# Altium footprint library AltiumLibraries.PcbLib: 91 footprints (part 5 of 6)
Each footprint in its own frame and in the unit in brackets; x right, y up, seen from the top. Pads: shape width x height; smd on the part's side, far side on the other; paste and mask are expansions set on the pad; w line width, h text height; cw(c..) or ccw(c..) is an arc to the next point about the centre after c.
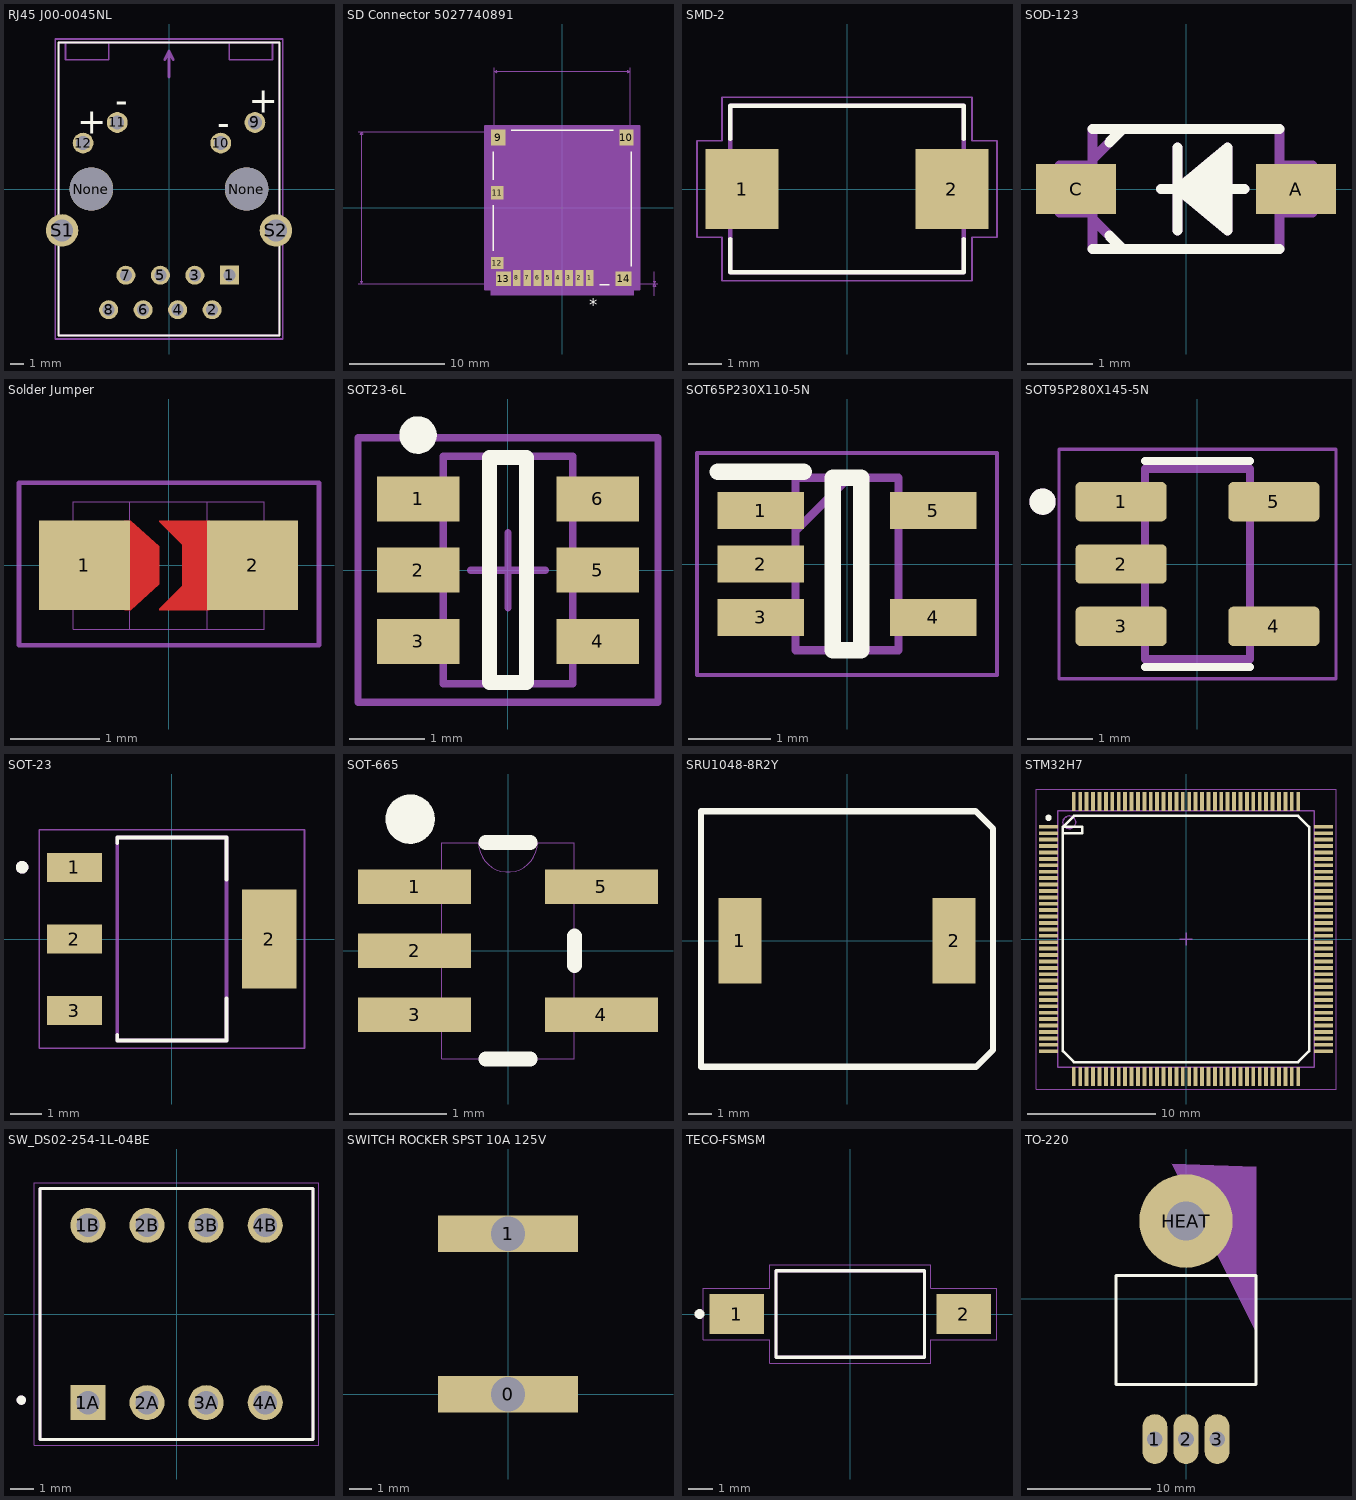
[diagram p4: the footprints below, top view; thin cyan lines are the x and y axes]

## RJ45 J00-0045NL [mm]
pads (16):
  rect 1.398x1.398 hole 0.89: 1(4.445,-6.35)
  round 1.398 hole 0.89: 2(3.175,-8.89) 3(1.905,-6.35) 4(0.635,-8.89) 5(-0.635,-6.35) 6(-1.905,-8.89) 7(-3.175,-6.35) 8(-4.445,-8.89)
  round 1.53 hole 1.02: 9(6.325,4.9) 10(3.81,3.38) 11(-3.81,4.9) 12(-6.325,3.38)
  round 3.2 hole 3.2 unplated: None(-5.715,0) None(5.715,0)
  round 2.4 hole 1.6: S1(-7.875,-3.05) S2(7.875,-3.05)
Top Overlay:
  lines w0.127: -8.13,-10.795 -8.13,10.795 8.13,10.795 8.13,-10.795 -8.13,-10.795
  text "+" at -6.749,4.077 h1.88
  text "-" at -3.947,5.606 h1.88
  text "-" at 3.569,3.949 h1.88
  text "+" at 5.865,5.604 h1.88
Mechanical 4:
  lines w0.127: -8.128,-10.795 8.128,-10.795 ; -8.128,-10.795 -8.128,10.795 ; -8.128,-10.795 8.128,-10.795 ; -8.128,-10.795 -8.128,10.795 ; -8.128,10.795 8.128,10.795 ; -8.128,10.795 8.128,10.795 ; -7.62,9.525 -4.445,9.525 ; -7.62,9.525 -7.62,10.795 -7.62,9.525 ; -7.62,9.525 -4.445,9.525 ; -4.445,9.525 -4.445,10.795 -4.445,9.525 ; 4.445,9.525 7.62,9.525 ; 4.445,9.525 4.445,10.795 4.445,9.525 ; 4.445,9.525 7.62,9.525 ; 7.62,9.525 7.62,10.795 7.62,9.525 ; 8.128,-10.795 8.128,10.795 ; 8.128,-10.795 8.128,10.795
  lines w0.203: 0,10.16 0.318,9.525 0,10.16 ; 0,10.16 -0.318,9.525 0,10.16 ; 0,10.16 0,8.255 0,10.16
  text "12" at -7.753,1.402 h1.88
  text "11" at -4.327,2.805 h1.88
  text "10" at 2.804,1.152 h1.88
  text "9" at 6.235,2.804 h1.88
  text "FRONT" at -1.592,6.436 h1.88
  text "RIGHT" at -7.327,9.625 h1.88
  text "LEFT" at 5.102,9.636 h1.88
  text "2" at 3.823,-8.534 h1.88
  text "4" at 1.273,-8.524 h1.88
  text "6" at -1.277,-8.553 h1.88
  text "8" at -3.827,-8.542 h1.88
  text "7" at -2.549,-5.984 h1.88
  text "5" at 0,-5.995 h1.88
  text "3" at 2.547,-5.981 h1.88
  text "1" at 5.105,-5.993 h1.88
  text "12" at -7.753,1.402 h1.88
  text "11" at -4.327,2.805 h1.88
  text "10" at 2.804,1.152 h1.88
  text "9" at 6.235,2.804 h1.88
  text "FRONT" at -1.592,6.436 h1.88
  text "RIGHT" at -7.327,9.625 h1.88
  text "LEFT" at 5.102,9.636 h1.88
  text "2" at 3.823,-8.534 h1.88
  text "4" at 1.273,-8.524 h1.88
  text "6" at -1.277,-8.553 h1.88
  text "8" at -3.827,-8.542 h1.88
  text "7" at -2.549,-5.984 h1.88
  text "5" at 0,-5.995 h1.88
  text "3" at 2.547,-5.981 h1.88
  text "1" at 5.105,-5.993 h1.88
Mechanical 15:
  lines w0.127: -8.378,-11.045 -8.378,11.045 8.378,11.045 8.378,-11.045 -8.378,-11.045
3D body "J00-0045NL--3DModel-STEP-56544.STEP": height 13.68, standoff -3.67, extent -8.201,-10.82 8.255,10.77

## SD Connector 5027740891 [mil]
height 70.87
pads (14):
  rect 32x66 smd paste+0 mask+0: 1(114.13,-290.83) 2(70.83,-290.83) 3(27.52,-290.83) 4(-15.79,-290.83) 5(-59.09,-290.83) 6(-102.4,-290.83) 7(-145.71,-290.83) 8(-189.02,-290.83)
  rect 59x67 smd: 9(-265.77,290.33) 10(265.77,290.33)
  rect 51x55 smd paste+0 mask+0: 11(-270.04,62.09)
  rect 51x51 smd: 12(-270.04,-229.25)
  rect 63x59 smd: 13(-244.14,-294.33)
  rect 67x59 smd: 14(253.92,-294.33)
Top Overlay:
  lines w6: -286.5,-178 -286.5,10 ; -286.5,114.83 -286.5,231.83 ; -211.27,320 211.27,320 ; 155.13,-320 195.53,-320 ; 286.5,-243.07 286.5,231.83
  text "*" at 112.5,-425 h50
Mechanical 5:
  region: -296.5,330 296.5,330 296.5,-363 -296.5,-363
Mechanical 7:
  lines w1: -846.5,-315 -281.5,-315 ; -846.5,315 -281.5,315 -281.5,580 ; 0,-315 396.5,-315 281.5,-315 ; 281.5,315 281.5,580 ; 381.5,-365 381.5,-315 ; 381.5,-265 381.5,-315 ; -831.5,-315 -831.5,315 ; -831.5,-315 -836.5,-305 -826.5,-305 -831.5,-315 ; -831.5,315 -836.5,305 -826.5,305 -831.5,315 ; -281.5,565 281.5,565 ; -281.5,565 -271.5,570 -271.5,560 -281.5,565 ; 281.5,565 271.5,570 271.5,560 281.5,565 ; 381.5,-315 376.5,-305 386.5,-305 381.5,-315 ; 381.5,-315 376.5,-325 386.5,-325 381.5,-315
  text "Default Padstyle: RX32Y66D0T" at -350,-690 h50
  text "Mounting Pad 1 Padstyle: RX67Y59D0T" at -437.5,-740 h50
  text "Mounting Pad 2 Padstyle: RX63Y59D0T" at -437.5,-790 h50
  text "Mounting Pad 3 Padstyle: RX59Y67D0T" at -437.5,-840 h50
  text "Top Pad Padstyle: RX51Y55D0T" at -350,-890 h50
  text "Alt 1 Padstyle: OX60Y90D30P" at -337.5,-940 h50
  text "Alt 2 Padstyle: OX90Y60D30P" at -337.5,-990 h50
  text "0in/0mm" at 401.5,-327.5 h25
  text "0.63in/16.002mm" at -1039,-12.5 h25
  text "0.563in/14.3mm" at -87.5,585 h25
Mechanical 13:
  lines w1: -281.5,-315 281.5,-315 281.5,315 -281.5,315 -281.5,-315
  text "*" at 112.5,-250 h50
Mechanical 15:
  region: -321.5,340 -321.5,-340 321.5,-340 321.5,340
  lines w6: -321.5,-340 321.5,-340 321.5,340 -321.5,340 -321.5,-340
3D body: height 10, standoff 0, extent 0,0 10,10

## SMD-2 [mm]
pads (2):
  rect 2.2x2.4 smd: 1(-3.15,0) 2(3.15,0)
Top Overlay:
  lines w0.127: -3.5,-1.5 -3.5,-2.5 3.5,-2.5 3.5,-1.5 ; -3.5,1.5 -3.5,2.5 3.5,2.5 3.5,1.5
Mechanical 4:
  lines w0.127: -3.5,-2.5 3.5,-2.5 ; -3.5,-2.5 -3.5,2.5 ; -3.5,-2.5 3.5,-2.5 ; -3.5,-2.5 -3.5,2.5 ; -3.5,2.5 3.5,2.5 ; -3.5,2.5 3.5,2.5 ; 3.5,-2.5 3.5,2.5 ; 3.5,-2.5 3.5,2.5
Mechanical 15:
  lines w0.05: -4.5,-1.45 -3.75,-1.45 -3.75,-2.75 3.75,-2.75 3.75,-1.45 4.5,-1.45 4.5,1.45 3.75,1.45 3.75,2.75 -3.75,2.75 -3.75,1.45 -4.5,1.45 -4.5,-1.45

## SOD-123 [mil]
pads (2):
  rect 48x30 smd: A(66,0) C(-66,0)
Top Overlay:
  lines w6: -56,-36 -38,-36 ; -56,36 -38,36 ; -46,-28 -38,-36 ; -46,28 -38,36 ; -15,0 -5,0 ; -5,-25 -5,0 ; -5,25 -5,0 ; 35,0 -5,0 ; 56,-36 -38,-36 ; 56,36 -38,36 ; -5,0 25,-5 ; -5,0 25,-10 ; -5,0 25,-15 ; -5,0 25,-20 ; -5,0 25,-25 25,-20 ; -5,0 25,5 ; -5,0 25,10 ; -5,0 25,15 ; -5,0 25,20 ; -5,0 25,25 25,20 ; 25,-20 25,-15 ; 25,-15 25,-10 ; 25,-10 25,-5 ; 25,-5 25,5 ; 25,5 25,10 ; 25,10 25,15 ; 25,15 25,20
Mechanical 4:
  lines w6: -76,-14 -56,-14 ; -76,-14 -76,14 ; -76,-14 -56,-14 ; -76,-14 -76,14 ; -76,14 -56,14 ; -76,14 -56,14 ; -56,-36 -38,-36 ; -56,-36 -56,-18 ; -56,-36 -38,-36 ; -56,-36 -56,-18 ; -56,-18 -38,-36 ; -56,-18 -56,-14 ; -56,-18 -38,-36 ; -56,-18 -56,-14 ; -56,-14 -56,14 ; -56,-14 -56,14 ; -56,14 -56,18 ; -56,14 -56,18 ; -56,18 -38,36 ; -56,18 -56,36 ; -56,18 -38,36 ; -56,18 -56,36 ; -56,36 -38,36 ; -56,36 -38,36 ; -38,-36 56,-36 ; -38,-36 56,-36 ; -38,36 56,36 ; -38,36 56,36 ; -5,0 25,-5 ; -5,0 25,-10 ; -5,0 25,-15 ; -5,0 25,-20 ; -5,0 25,-25 ; -5,0 25,5 ; -5,0 25,10 ; -5,0 25,15 ; -5,0 25,20 ; -5,0 25,25 ; -5,0 -5,25 -5,0 ; -5,0 35,0 -5,0 ; -5,0 -5,-25 -5,0 ; -5,0 -15,0 -5,0 ; -5,0 25,-5 ; -5,0 25,-10 ; -5,0 25,-15 ; -5,0 25,-20 ; -5,0 25,-25 ; -5,0 25,5 ; -5,0 25,10 ; -5,0 25,15 ; -5,0 25,20 ; -5,0 25,25 ; 25,-25 25,-20 ; 25,-25 25,-20 ; 25,-20 25,-15 ; 25,-20 25,-15 ; 25,-15 25,-10 ; 25,-15 25,-10 ; 25,-10 25,-5 ; 25,-10 25,-5 ; 25,-5 25,5 ; 25,-5 25,5 ; 25,5 25,10 ; 25,5 25,10 ; 25,10 25,15 ; 25,10 25,15 ; 25,15 25,20 ; 25,15 25,20 ; 25,20 25,25 ; 25,20 25,25 ; 56,-36 56,-14 ; 56,-36 56,-14 ; 56,-14 56,14 ; 56,-14 76,-14 ; 56,-14 56,14 ; 56,-14 76,-14 ; 56,14 76,14 ; 56,14 56,36 ; 56,14 76,14 ; 56,14 56,36 ; 76,-14 76,14 ; 76,-14 76,14

## Solder Jumper [mil] "Solder jumper compatible with 0805 passives"
pads (2):
  rect 40x39.37 smd: 1(-37,0) 2(37,0)
Top Layer:
  region: -16.54,19.68 -4.01,8.37 -3.99,-8.37 -16.54,-19.68 -19.29,-19.68 -19.29,19.68
  region: 18,-19.68 -4.06,-19.68 -4.06,-19.06 6,-9 6,15.35 18,15.35
  region: 18,19.68 -4.06,19.68 -4.06,19.06 6,9 6,-15.35 18,-15.35
Mechanical 1:
  lines w0: -17,-28 17,-28 ; -17,-28 -42,-28 -42,28 -17,28 ; -17,-28 -17,28 ; -17,28 17,28 ; 17,-28 42,-28 42,28 17,28 ; 17,-28 17,28
Mechanical 15:
  lines w2.01: -65.75,-35.04 66.14,-35.04 66.14,36.22 -65.75,36.22 -65.75,-35.04

## SOT23-6L [mm]
height 1.25
pads (6):
  rect 1.1x0.6 smd: 1(-1.2,0.95) 2(-1.2,0) 3(-1.2,-0.95) 4(1.2,-0.95) 5(1.2,0) 6(1.2,0.95)
Top Overlay:
  circle w0.25: c-1.2,1.8 r0.125
  lines w0.2: -0.25,-1.5 0.25,-1.5 0.25,1.5 -0.25,1.5 -0.25,-1.5
Mechanical 13:
  lines w0.1: -0.865,-1.515 -0.865,1.515 0.865,1.515 0.865,-1.515 -0.865,-1.515
Mechanical 15:
  lines w0.1: -0.5,0 0.5,0 ; 0,-0.5 0,0.5 ; -2,-1.763 -2,1.763 2,1.763 2,-1.763 -2,-1.763
3D body: height 1.25, standoff 0.05, extent -0.865,-1.515 0.865,1.515

## SOT65P230X110-5N [mm]
pads (5):
  rect 1.05x0.45 smd: 1(-1.05,0.65) 2(-1.05,0) 3(-1.05,-0.65) 4(1.05,-0.65) 5(1.05,0.65)
Top Overlay:
  lines w0.2: -1.575,1.125 -0.525,1.125 ; -0.175,-1.05 -0.175,1.05 0.175,1.05 0.175,-1.05 -0.175,-1.05
Mechanical 13:
  lines w0.1: -0.625,0.4 0.025,1.05 ; -0.625,-1.05 -0.625,1.05 0.625,1.05 0.625,-1.05 -0.625,-1.05
Mechanical 15:
  lines w0.05: -1.825,-1.35 -1.825,1.35 1.825,1.35 1.825,-1.35 -1.825,-1.35
3D body "CPDV5-3V3UP.stp": height 1.1, standoff 0, extent -1.15,-1.05 1.15,1.05

## SOT95P280X145-5N [mm]
pads (5):
  rrect25% 1.39x0.6 smd: 1(-1.165,0.95) 2(-1.165,0) 3(-1.165,-0.95) 4(1.165,-0.95) 5(1.165,0.95)
Top Overlay:
  circle w0.2: c-2.36,0.95 r0.1
  lines w0.127: -0.8,-1.57 0.8,-1.57 ; -0.8,1.57 0.8,1.57
Mechanical 13:
  circle w0.2: c-2.36,0.95 r0.1
  lines w0.127: -0.8,-1.45 0.8,-1.45 0.8,1.45 -0.8,1.45 -0.8,-1.45
Mechanical 15:
  lines w0.05: -2.11,-1.75 2.11,-1.75 2.11,1.75 -2.11,1.75 -2.11,-1.75
3D body "RJ_5_ADI.step": height 1.45, standoff 0, extent -1.499,-1.499 1.499,1.499

## SOT-23 [mm]
pads (4):
  rect 1.76x0.93 smd: 1(-3.125,2.3) 2(-3.125,0) 3(-3.125,-2.3)
  rect 1.76x3.19 smd: 2(3.125,0)
Top Overlay:
  circle w0.2: c-4.8,2.3 r0.1
  lines w0.127: -1.75,-3.08 -1.75,-3.25 1.75,-3.25 1.75,-1.91 ; -1.75,3.08 -1.75,3.25 1.75,3.25 1.75,1.91
Mechanical 4:
  circle w0.2: c-4.8,2.3 r0.1
  circle w0.2: c-4.8,2.3 r0.1
  lines w0.127: -1.75,-3.25 1.75,-3.25 ; -1.75,-3.25 -1.75,3.25 ; -1.75,-3.25 1.75,-3.25 ; -1.75,-3.25 -1.75,3.25 ; -1.75,3.25 1.75,3.25 ; -1.75,3.25 1.75,3.25 ; 1.75,-3.25 1.75,3.25 ; 1.75,-3.25 1.75,3.25
Mechanical 16:
  lines w0.05: -4.255,-3.5 4.255,-3.5 4.255,3.5 -4.255,3.5 -4.255,-3.5

## SOT-665 [mil]
pads (5):
  rect 46x14 smd: 1(-38,26) 2(-38,0) 3(-38,-26) 4(38,-26) 5(38,26)
Top Overlay:
  circle w10: c-39.76,53.54 r5.04
  lines w6: -9,-44 9,-44 ; -9,44 9,44 ; 27,-6 27,6
Mechanical 4:
  lines w0: -44,-31 -27,-31 ; -44,-31 -44,-20 ; -44,-31 -27,-31 ; -44,-31 -44,-20 ; -44,-20 -27,-20 ; -44,-20 -27,-20 ; -44,-6 -27,-6 ; -44,-6 -44,6 ; -44,-6 -27,-6 ; -44,-6 -44,6 ; -44,6 -27,6 ; -44,6 -27,6 ; -44,20 -27,20 ; -44,20 -44,31 ; -44,20 -27,20 ; -44,20 -44,31 ; -44,31 -27,31 ; -44,31 -27,31 ; -27,-44 -27,-31 ; -27,-44 27,-44 ; -27,-44 -27,-31 ; -27,-44 27,-44 ; -27,-31 -27,-20 ; -27,-31 -27,-20 ; -27,-20 -27,-6 ; -27,-20 -27,-6 ; -27,-6 -27,6 ; -27,-6 -27,6 ; -27,6 -27,20 ; -27,6 -27,20 ; -27,20 -27,31 ; -27,20 -27,31 ; -27,31 -27,44 ; -27,31 -27,44 ; -27,44 -12,44 ; -27,44 -12,44 ; -12,44 ccw(c0,44) 12,44 ; -12,44 ccw(c0,44) 12,44 ; -12,44 12,44 ; -12,44 12,44 ; 12,44 27,44 ; 12,44 27,44 ; 27,-44 27,-31 ; 27,-44 27,-31 ; 27,-31 44,-31 ; 27,-31 27,-20 ; 27,-31 44,-31 ; 27,-31 27,-20 ; 27,-20 44,-20 ; 27,-20 27,20 ; 27,-20 44,-20 ; 27,-20 27,20 ; 27,20 44,20 ; 27,20 27,31 ; 27,20 44,20 ; 27,20 27,31 ; 27,31 44,31 ; 27,31 27,44 ; 27,31 44,31 ; 27,31 27,44 ; 44,-31 44,-20 ; 44,-31 44,-20 ; 44,20 44,31 ; 44,20 44,31

## SRU1048-8R2Y [mil]
pads (2):
  rect 71x142 smd: 1(-177,0) 2(177,0)
Top Overlay:
  lines w10: -241.5,-208.27 -241.5,0 -241.5,214.17 212.6,214.17 241.5,185.27 241.5,-180.15 213.39,-208.27 -241.5,-208.27

## STM32H7 [mm] "STM32H743ZI 144 pin"
height 1.6
pads (144):
  rect 0.3x1.45 smd: BOOT0(-5.75,10.725) PA3(-8.75,-10.725) PA4(-7.25,-10.725) PA5(-6.75,-10.725) PA6(-6.25,-10.725) PA7(-5.75,-10.725) PA14(8.75,10.725) PA15(8.25,10.725) PB0(-4.25,-10.725) PB1(-3.75,-10.725) PB2(-3.25,-10.725) PB3(-3.25,10.725) PB4(-3.75,10.725) PB5(-4.25,10.725) PB6(-4.75,10.725) PB7(-5.25,10.725) PB8(-6.25,10.725) PB9(-6.75,10.725) PB10(7.25,-10.725) PB11(7.75,-10.725) PC4(-5.25,-10.725) PC5(-4.75,-10.725) PC10(7.75,10.725) PC11(7.25,10.725) PC12(6.75,10.725) PD0(6.25,10.725) PD1(5.75,10.725) PD2(5.25,10.725) PD3(4.75,10.725) PD4(4.25,10.725) PD5(3.75,10.725) PD6(2.25,10.725) PD7(1.75,10.725) PDR_ON(-8.25,10.725) PE0(-7.25,10.725) PE1(-7.75,10.725) PE7(1.75,-10.725) PE8(2.25,-10.725) PE9(2.75,-10.725) PE10(4.25,-10.725) PE11(4.75,-10.725) PE12(5.25,-10.725) PE13(5.75,-10.725) PE14(6.25,-10.725) PE15(6.75,-10.725) PF11(-2.75,-10.725) PF12(-2.25,-10.725) PF13(-0.75,-10.725) PF14(-0.25,-10.725) PF15(0.25,-10.725) PG0(0.75,-10.725) PG1(1.25,-10.725) PG9(1.25,10.725) PG10(0.75,10.725) PG11(0.25,10.725) PG12(-0.25,10.725) PG13(-0.75,10.725) PG14(-1.25,10.725) PG15(-2.75,10.725) VCAP(8.25,-10.725) VDD(-8.75,10.725) VDD(-7.75,-10.725) VDD(-2.25,10.725) VDD(-1.25,-10.725) VDD(2.75,10.725) VDD(3.75,-10.725) VDD(8.75,-10.725) VSS(-8.25,-10.725) VSS(-1.75,-10.725) VSS(-1.75,10.725) VSS(3.25,-10.725) VSS(3.25,10.725)
  rect 1.45x0.3 smd: NRST(-10.725,-3.25) PA0(-10.725,-7.75) PA1(-10.725,-8.25) PA2(-10.725,-8.75) PA8(10.725,4.75) PA9(10.725,5.25) PA10(10.725,5.75) PA11(10.725,6.25) PA12(10.725,6.75) PA13(10.725,7.25) PB12(10.725,-8.75) PB13(10.725,-8.25) PB14(10.725,-7.75) PB15(10.725,-7.25) PC0(-10.725,-3.75) PC1(-10.725,-4.25) PC2(-10.725,-4.75) PC3(-10.725,-5.25) PC6(10.725,2.75) PC7(10.725,3.25) PC8(10.725,3.75) PC9(10.725,4.25) PC13(-10.725,5.75) PC14(-10.725,5.25) PC15(-10.725,4.75) PD8(10.725,-6.75) PD9(10.725,-6.25) PD10(10.725,-5.75) PD11(10.725,-5.25) PD12(10.725,-4.75) PD13(10.725,-4.25) PD14(10.725,-2.75) PD15(10.725,-2.25) PE2(-10.725,8.75) PE3(-10.725,8.25) PE4(-10.725,7.75) PE5(-10.725,7.25) PE6(-10.725,6.75) PF0(-10.725,4.25) PF1(-10.725,3.75) PF2(-10.725,3.25) PF3(-10.725,2.75) PF4(-10.725,2.25) PF5(-10.725,1.75) PF6(-10.725,0.25) PF7(-10.725,-0.25) PF8(-10.725,-0.75) PF9(-10.725,-1.25) PF10(-10.725,-1.75) PG2(10.725,-1.75) PG3(10.725,-1.25) PG4(10.725,-0.75) PG5(10.725,-0.25) PG6(10.725,0.25) PG7(10.725,0.75) PG8(10.725,1.25) PH0(-10.725,-2.25) PH1(-10.725,-2.75) VBAT(-10.725,6.25) VCAP(10.725,7.75) VDD(-10.725,-5.75) VDD(-10.725,0.75) VDD(10.725,-3.25) VDD(10.725,8.75) VDD33USB(10.725,2.25) VDDA(-10.725,-7.25) VREF+(-10.725,-6.75) VSS(-10.725,1.25) VSS(10.725,-3.75) VSS(10.725,1.75) VSS(10.725,8.25) VSSA(-10.725,-6.25)
Top Overlay:
  circle w0.25: c-10.725,9.45 r0.125
  lines w0.2: -9.6,8.25 -8.1,8.25 -8.1,8.75 -9.6,8.75 ; -9.6,8.75 -8.75,9.6 8.75,9.6 9.6,8.75 9.6,-8.75 8.75,-9.6 -8.75,-9.6 -9.6,-8.75 -9.6,8.75
Mechanical 13:
  circle w0.1: c-9.1,9.1 r0.5
  lines w0.1: -10,-10 10,-10 10,10 -10,10 -10,-10
Mechanical 15:
  lines w0.05: -11.7,-11.7 11.7,-11.7 11.7,11.7 -11.7,11.7 -11.7,-11.7
  lines w0.1: -0.5,0 0.5,0 ; 0,-0.5 0,0.5
3D body: height 1.6, standoff 0.05, extent -10,-10 10,10

## SW_DS02-254-1L-04BE [mm]
pads (8):
  rect 1.508x1.508 hole 1: 1A(-3.81,-3.81)
  round 1.508 hole 1: 1B(-3.81,3.81) 2A(-1.27,-3.81) 2B(-1.27,3.81) 3A(1.27,-3.81) 3B(1.27,3.81) 4A(3.81,-3.81) 4B(3.81,3.81)
Top Overlay:
  circle w0.2: c-6.67,-3.7 r0.1
  lines w0.127: -5.87,-5.4 5.87,-5.4 5.87,5.4 -5.87,5.4 -5.87,-5.4
Mechanical 13:
  circle w0.2: c-6.67,-3.7 r0.1
  lines w0.127: -5.87,-5.4 5.87,-5.4 5.87,5.4 -5.87,5.4 -5.87,-5.4
Mechanical 15:
  lines w0.05: -6.12,-5.65 -6.12,5.65 6.12,5.65 6.12,-5.65 -6.12,-5.65
3D body "CUI_DEVICES_DS02-254-1L-04BE.step": height 9.46, standoff -3.8, extent -5.867,-7.71 5.863,5.17

## SWITCH ROCKER SPST 10A 125V [mm]
pads (2):
  rect 6.1x1.6 hole 1.5 square: 0(0,0) 1(0,7)
3D body: height 13.69, standoff 0, extent -7.3,-3.1 7.3,15.9

## TECO-FSMSM [mm]
pads (2):
  rect 2.19x1.6 smd: 1(-4.59,0) 2(4.59,0)
Top Overlay:
  circle w0.2: c-6.096,0 r0.1
  lines w0.127: -3,-1.75 -3,1.75 3,1.75 3,-1.75 -3,-1.75
Mechanical 13:
  lines w0.127: -3,-1.75 -3,1.75 3,1.75 3,-1.75 -3,-1.75
Mechanical 15:
  lines w0.05: -5.935,-1.05 -3.25,-1.05 -3.25,-2 3.25,-2 3.25,-1.05 5.935,-1.05 5.935,1.05 3.25,1.05 3.25,2 -3.25,2 -3.25,1.05 -5.935,1.05 -5.935,-1.05

## TO-220 [mil]
pads (4):
  oval 80x160 hole 50: 1(-100,-450) 2(0,-450) 3(100,-450)
  round 300 hole 126: HEAT(0,250)
Top Overlay:
  lines w10: -225,-275 225,-275 225,75 -225,75 -225,-275
Mechanical 16:
  region: -45.67,433.07 225,425 225,-106.56